# EAGLE library part GKICD01 (library 029000100  -  gKEagleLibrary)
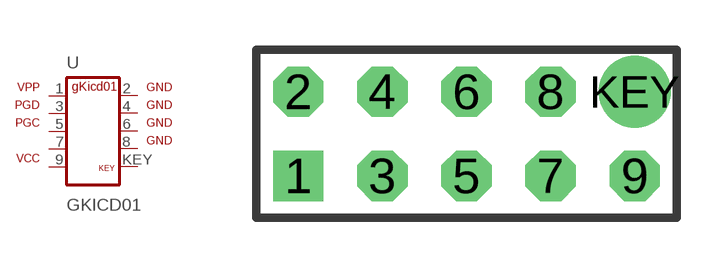
[diagram p3: symbol with the pads of GKICD01; footprint GKICD01]

Designator prefix -

## GKICD01  [GKICD01]
1  VPP  pas
2  2  pwr
3  PGD  pas
4  4  pwr
5  PGC  pas
6  6  pwr
7  NC  nc
8  8  pwr
9  VCC  pwr
KEY  KEY  nc

## Footprint GKICD01 (pad centres in mm)
drill 1.016 square: 1 1.27,1.27
drill 1.016 octagon: 2 1.27,3.81; 3 3.81,1.27; 4 3.81,3.81; 5 6.35,1.27; 6 6.35,3.81; 7 8.89,1.27; 8 8.89,3.81; 9 11.43,1.27
drill 1.016 pad 2.184: KEY 11.43,3.81